# EAGLE library part DOUBLE-SEGMEN-2 (library FansElectronics-7Segmen)
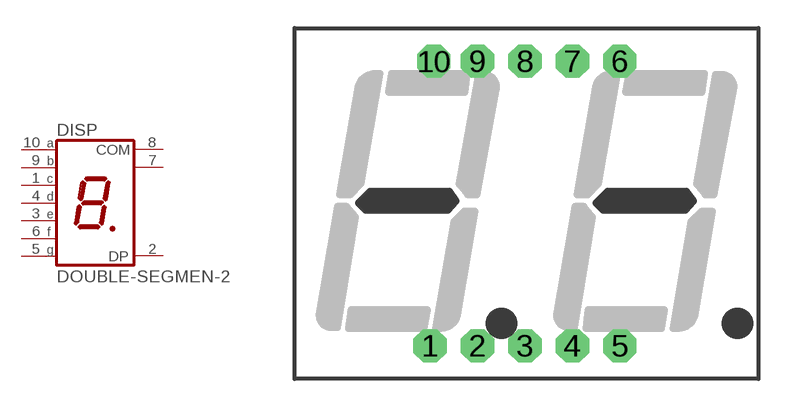
[diagram p7: symbol with the pads of DOUBLE-056-2; footprint DOUBLE-056-2]

Designator prefix DISP

## DOUBLE-SEGMEN-2  [DOUBLE-056-2]
1  C  pas
2  DP  pas
3  E  pas
4  D  pas
5  G  pas
6  F  pas
7  COM  pas
8  COM  pas
9  B  pas
10  A  pas

## Footprint DOUBLE-056-2 (pad centres in mm)
drill 0.8 pad 1.778 octagon: 1 -5.18,-7.62; 2 -2.64,-7.62; 3 -0.1,-7.62; 4 2.44,-7.62; 5 4.98,-7.62; 6 4.98,7.62; 7 2.44,7.62; 8 -0.1,7.62; 9 -2.64,7.62; 10 -4.98,7.62